# EAGLE library part EZO-EC (library EZO)
EZO-EC - EZO Conductivity Circuit for measuring conductivity, total dissolved solids, salinity, and specific gravity (sea water only) Manufacturer: Atlas Scientific Manufacturer Part Number: EZO-EC Specifications Operating Voltage: 3.3V - 5V Range: 0.07 - 500,000 uS/cm Accuracy: ± 2% Communication Protocol: UART/I2C Default I2C address: 0x64 Data Format: ASCII Atlas Scientific EZO Conductivity Circuit <https://atlas-scientific.com/embedded-solutions/ezo-conductivity-circuit/>
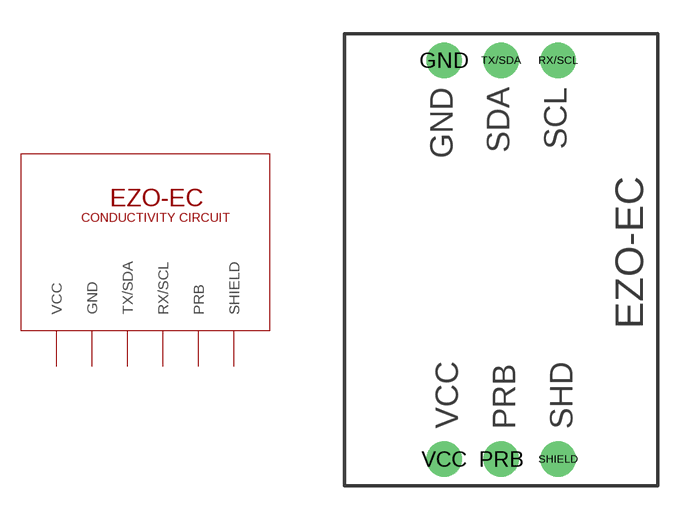
[diagram p0: symbol with the pads of EZO-EC; footprint EZO-EC]

Designator prefix U

## EZO-EC (ACCURACY: ±0.002; I2C_ADDR: 99; MEASUREMENT: pH; RANGE: 0.001-14.000; RESOLUTION: 0.001)  [EZO-EC]
GND  GND
PRB  PRB
RX/SCL  RX/SCL
SHIELD  SHIELD
TX/SDA  TX/SDA
VCC  VCC

## Footprint EZO-EC (pad centres in mm)
drill 1.05: GND 4.445,18.97; PRB 6.985,1.19; RX/SCL 9.525,18.97; SHIELD 9.525,1.19; TX/SDA 6.985,18.97; VCC 4.445,1.19